# EAGLE library part B8B-PH-SM4-TB(LF)(SN) (library CabInst)
PH SMT top entry shrouded header 8 way JST PH Series, 2mm Pitch 8 Way 1 Row Straight PCB Header, Solder Termination, 2A Source: Datasheet <http://uk.rs-online.com/web/p/products/1667263>
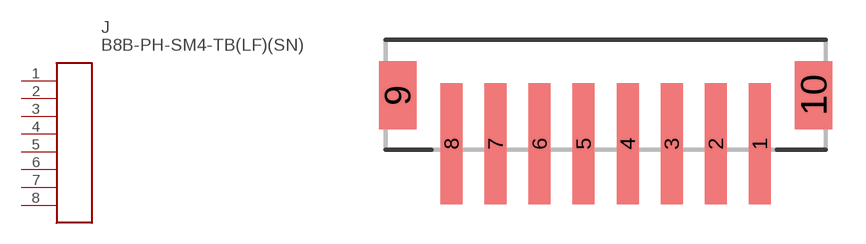
[diagram p7: symbol with the pads of B8B-PH-SM4-TB; footprint B8B-PH-SM4-TB]

Designator prefix J

## B8B-PH-SM4-TB(LF)(SN) (DESCRIPTION: PH SMT top entry shrouded header 8 way JST PH Series, 2mm Pitch 8 Way 1 Row Straight PCB Header, Solder Termination, 2A; HEIGHT: mm; MANUFACTURER_NAME: JST (JAPAN SOLDERLESS TERMINALS); MANUFACTURER_PART_NUMBER: B8B-PH-SM4-TB(LF)(SN); RS_PART_NUMBER: 1667263)  [B8B-PH-SM4-TB]
1  S1
2  S2
3  S3
4  S4
5  S5
6  S6
7  S7
8  S8

## Footprint B8B-PH-SM4-TB (pad centres in mm)
B8B-PH-SM4-TB
smd 1 x 5.5: 1 4,0; 2 2,0; 3 0,0; 4 -2,0; 5 -4,0; 6 -6,0; 7 -8,0; 8 -10,0
smd 1.7 x 3.1: 9 -12.45,2.2; 10 6.45,2.2